# EAGLE library part IL300-X007 (library novaXR)
IL300-X007 OPTOISO 5.3KV PHVOLT 8SMD https://www.digikey.com/product-detail/en/IL300-X007/IL300-X007-ND/4072830/?itemSeq=300088274
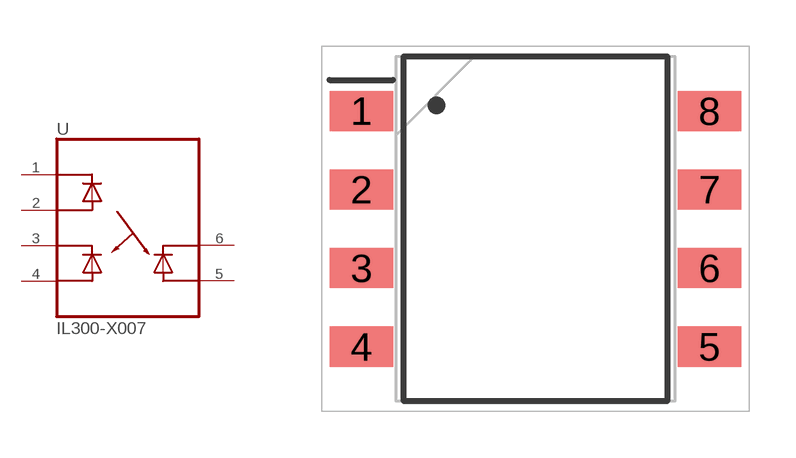
[diagram p3: symbol with the pads of SOP254P1230X400-8N; footprint SOP254P1230X400-8N]

Designator prefix -

## IL300-X007 (DATASHEET: http://www.vishay.com/docs/83622/il300.pdf; DIGIKEY: https://www.digikey.com/product-detail/en/IL300-X007/IL300-X007-ND/4072830/?itemSeq=300088274)  [SOP254P1230X400-8N]
1  C1  pas
2  A1  pas
3  C2  pas
4  A2  pas
5  A3  pas
6  C3  pas

## Footprint SOP254P1230X400-8N (pad centres in mm)
Gull Wing Surface Mount Option #300
smd 2.05 x 1.3: 1 -5.625,3.81; 2 -5.625,1.27; 3 -5.625,-1.27; 4 -5.625,-3.81; 5 5.625,-3.81; 6 5.625,-1.27; 7 5.625,1.27; 8 5.625,3.81